# Altium schematic symbol library ULN2803A.SchLib: 2 symbols
Pins are listed as number, name and electrical type; pins without a type are passive.

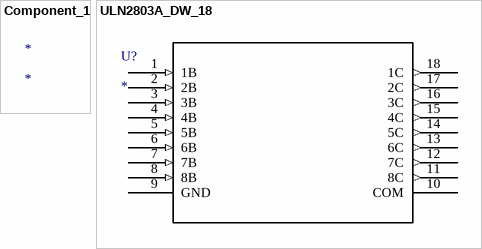
[diagram p0: symbols Component_1 to ULN2803A_DW_18]

## Component_1
designator *

## ULN2803A_DW_18
designator U?
Imported; Manufacturer: Texas Instruments; GENERIC_PART_NUMBER: ULN2803A; INDUSTRY_STD_PKG_TYPE: SOIC; FAMILY_NAME: PERIPHERAL DRIVER AND ACTUATOR; PIN_COUNT: 18; PACKAGE_DESIGNATOR: DW; Datasheet URL: http://www.ti.com/lit/gpn/ULN2803A; RefDes: RefDes; Type: DEV; Value: Value
footprint DW18
pins: 1 1B (in), 2 2B (in), 3 3B (in), 4 4B (in), 5 5B (in), 6 6B (in), 7 7B (in), 8 8B (in), 9 GND (power), 10 COM, 11 8C (out), 12 7C (out), 13 6C (out), 14 5C (out), 15 4C (out), 16 3C (out), 17 2C (out), 18 1C (out)